# EAGLE library part ATMEGA2560 (library Atmel)
Atmel ATmega2560, Also ATmega1280 and ATmega640
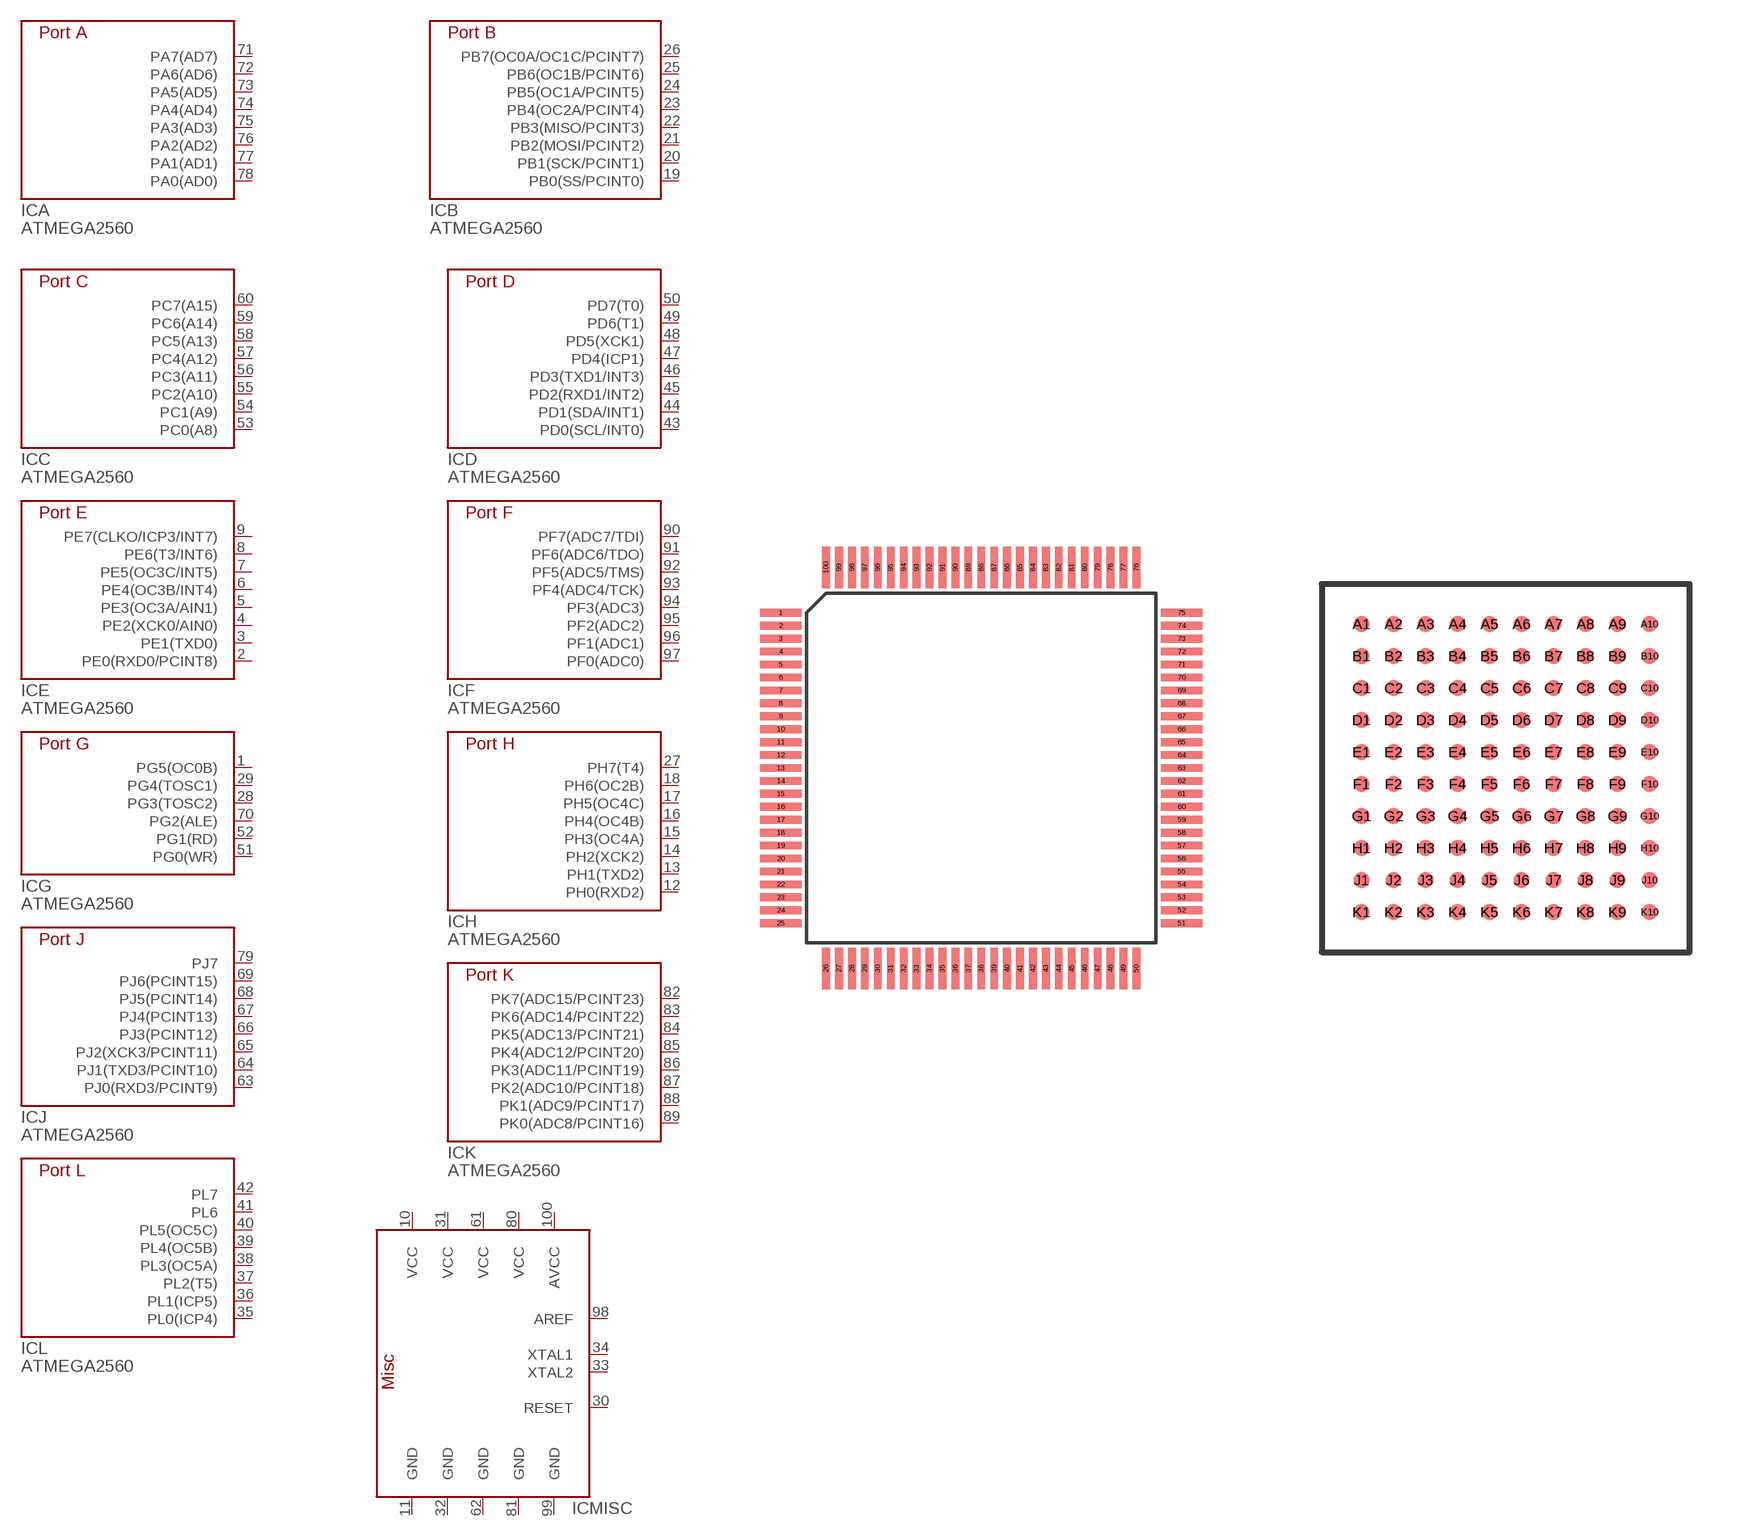
[diagram p5: symbol with the pads of TQFP100-100A; footprints TQFP100-100A, CBGA100-100C1]

Designator prefix IC; gates A=ATMEGA2560-A B=ATMEGA2560-B C=ATMEGA2560-C D=ATMEGA2560-D E=ATMEGA2560-E F=ATMEGA2560-F G=ATMEGA2560-G H=ATMEGA2560-H J=ATMEGA2560-J K=ATMEGA2560-K L=ATMEGA2560-L MISC=ATMEGA2560-MISC

## ATMEGA2560-16AU  [TQFP100-100A]
1  G:PG5(OC0B)
2  E:PE0(RXD0/PCINT8)
3  E:PE1(TXD0)
4  E:PE2(XCK0/AIN0)
5  E:PE3(OC3A/AIN1)
6  E:PE4(OC3B/INT4)
7  E:PE5(OC3C/INT5)
8  E:PE6(T3/INT6)
9  E:PE7(CLKO/ICP3/INT7)
10  MISC:VCC
11  MISC:GND
12  H:PH0(RXD2)
13  H:PH1(TXD2)
14  H:PH2(XCK2)
15  H:PH3(OC4A)
16  H:PH4(OC4B)
17  H:PH5(OC4C)
18  H:PH6(OC2B)
19  B:PB0(SS/PCINT0)
20  B:PB1(SCK/PCINT1)
21  B:PB2(MOSI/PCINT2)
22  B:PB3(MISO/PCINT3)
23  B:PB4(OC2A/PCINT4)
24  B:PB5(OC1A/PCINT5)
25  B:PB6(OC1B/PCINT6)
26  B:PB7(OC0A/OC1C/PCINT7)
27  H:PH7(T4)
28  G:PG3(TOSC2)
29  G:PG4(TOSC1)
30  MISC:RESET
31  MISC:VCC
32  MISC:GND
33  MISC:XTAL2
34  MISC:XTAL1
35  L:PL0(ICP4)
36  L:PL1(ICP5)
37  L:PL2(T5)
38  L:PL3(OC5A)
39  L:PL4(OC5B)
40  L:PL5(OC5C)
41  L:PL6
42  L:PL7
43  D:PD0(SCL/INT0)
44  D:PD1(SDA/INT1)
45  D:PD2(RXD1/INT2)
46  D:PD3(TXD1/INT3)
47  D:PD4(ICP1)
48  D:PD5(XCK1)
49  D:PD6(T1)
50  D:PD7(T0)
51  G:PG0(WR)
52  G:PG1(RD)
53  C:PC0(A8)
54  C:PC1(A9)
55  C:PC2(A10)
56  C:PC3(A11)
57  C:PC4(A12)
58  C:PC5(A13)
59  C:PC6(A14)
60  C:PC7(A15)
61  MISC:VCC
62  MISC:GND
63  J:PJ0(RXD3/PCINT9)
64  J:PJ1(TXD3/PCINT10)
65  J:PJ2(XCK3/PCINT11)
66  J:PJ3(PCINT12)
67  J:PJ4(PCINT13)
68  J:PJ5(PCINT14)
69  J:PJ6(PCINT15)
70  G:PG2(ALE)
71  A:PA7(AD7)
72  A:PA6(AD6)
73  A:PA5(AD5)
74  A:PA4(AD4)
75  A:PA3(AD3)
76  A:PA2(AD2)
77  A:PA1(AD1)
78  A:PA0(AD0)
79  J:PJ7
80  MISC:VCC
81  MISC:GND
82  K:PK7(ADC15/PCINT23)
83  K:PK6(ADC14/PCINT22)
84  K:PK5(ADC13/PCINT21)
85  K:PK4(ADC12/PCINT20)
86  K:PK3(ADC11/PCINT19)
87  K:PK2(ADC10/PCINT18)
88  K:PK1(ADC9/PCINT17)
89  K:PK0(ADC8/PCINT16)
90  F:PF7(ADC7/TDI)
91  F:PF6(ADC6/TDO)
92  F:PF5(ADC5/TMS)
93  F:PF4(ADC4/TCK)
94  F:PF3(ADC3)
95  F:PF2(ADC2)
96  F:PF1(ADC1)
97  F:PF0(ADC0)
98  MISC:AREF
99  MISC:GND
100  MISC:AVCC

## ATMEGA2560-16CU  [CBGA100-100C1]
A1  MISC:GND
A2  MISC:AREF
A3  F:PF0(ADC0)
A4  F:PF2(ADC2)
A5  F:PF5(ADC5/TMS)
A6  K:PK0(ADC8/PCINT16)
A7  K:PK3(ADC11/PCINT19)
A8  K:PK6(ADC14/PCINT22)
A9  MISC:GND
A10  MISC:VCC
B1  MISC:AVCC
B2  G:PG5(OC0B)
B3  F:PF1(ADC1)
B4  F:PF3(ADC3)
B5  F:PF6(ADC6/TDO)
B6  K:PK1(ADC9/PCINT17)
B7  K:PK4(ADC12/PCINT20)
B8  K:PK7(ADC15/PCINT23)
B9  A:PA0(AD0)
B10  A:PA2(AD2)
C1  E:PE2(XCK0/AIN0)
C2  E:PE0(RXD0/PCINT8)
C3  E:PE1(TXD0)
C4  F:PF4(ADC4/TCK)
C5  F:PF7(ADC7/TDI)
C6  K:PK2(ADC10/PCINT18)
C7  K:PK5(ADC13/PCINT21)
C8  J:PJ7
C9  A:PA1(AD1)
C10  A:PA3(AD3)
D1  E:PE3(OC3A/AIN1)
D2  E:PE4(OC3B/INT4)
D3  E:PE5(OC3C/INT5)
D4  E:PE6(T3/INT6)
D5  H:PH2(XCK2)
D6  A:PA4(AD4)
D7  A:PA5(AD5)
D8  A:PA6(AD6)
D9  A:PA7(AD7)
D10  G:PG2(ALE)
E1  E:PE7(CLKO/ICP3/INT7)
E2  H:PH0(RXD2)
E3  H:PH1(TXD2)
E4  H:PH3(OC4A)
E5  H:PH5(OC4C)
E6  J:PJ6(PCINT15)
E7  J:PJ5(PCINT14)
E8  J:PJ4(PCINT13)
E9  J:PJ3(PCINT12)
E10  J:PJ2(XCK3/PCINT11)
F1  MISC:VCC
F2  H:PH4(OC4B)
F3  H:PH6(OC2B)
F4  B:PB0(SS/PCINT0)
F5  L:PL4(OC5B)
F6  D:PD1(SDA/INT1)
F7  J:PJ1(TXD3/PCINT10)
F8  J:PJ0(RXD3/PCINT9)
F9  C:PC7(A15)
F10  MISC:GND
G1  MISC:GND
G2  B:PB1(SCK/PCINT1)
G3  B:PB2(MOSI/PCINT2)
G4  B:PB5(OC1A/PCINT5)
G5  L:PL2(T5)
G6  D:PD0(SCL/INT0)
G7  D:PD5(XCK1)
G8  C:PC5(A13)
G9  C:PC6(A14)
G10  MISC:VCC
H1  B:PB3(MISO/PCINT3)
H2  B:PB4(OC2A/PCINT4)
H3  MISC:RESET
H4  L:PL1(ICP5)
H5  L:PL3(OC5A)
H6  L:PL7
H7  D:PD4(ICP1)
H8  C:PC4(A12)
H9  C:PC3(A11)
H10  C:PC2(A10)
J1  H:PH7(T4)
J2  G:PG3(TOSC2)
J3  B:PB6(OC1B/PCINT6)
J4  L:PL0(ICP4)
J5  MISC:XTAL2
J6  L:PL6
J7  D:PD3(TXD1/INT3)
J8  C:PC1(A9)
J9  C:PC0(A8)
J10  G:PG1(RD)
K1  B:PB7(OC0A/OC1C/PCINT7)
K2  G:PG4(TOSC1)
K3  MISC:VCC
K4  MISC:GND
K5  MISC:XTAL1
K6  L:PL5(OC5C)
K7  D:PD2(RXD1/INT2)
K8  D:PD6(T1)
K9  D:PD7(T0)
K10  G:PG0(WR)

## Footprint TQFP100-100A (pad centres in mm)
100-Lead, 14x14mm Body Size, 1.0mm Body Thickness, 0.5mm lead pitch, Thin Quad Flat Pack (TQFP)
smd 1.6 x 0.3: 1 -7.75,6; 2 -7.75,5.5; 3 -7.75,5; 4 -7.75,4.5; 5 -7.75,4; 6 -7.75,3.5; 7 -7.75,3; 8 -7.75,2.5; 9 -7.75,2; 10 -7.75,1.5; 11 -7.75,1; 12 -7.75,0.5; 13 -7.75,0; 14 -7.75,-0.5; 15 -7.75,-1; 16 -7.75,-1.5; 17 -7.75,-2; 18 -7.75,-2.5; 19 -7.75,-3; 20 -7.75,-3.5; 21 -7.75,-4; 22 -7.75,-4.5; 23 -7.75,-5; 24 -7.75,-5.5; 25 -7.75,-6; 51 7.75,-6; 52 7.75,-5.5; 53 7.75,-5; 54 7.75,-4.5; 55 7.75,-4; 56 7.75,-3.5; 57 7.75,-3; 58 7.75,-2.5; 59 7.75,-2; 60 7.75,-1.5; 61 7.75,-1; 62 7.75,-0.5; 63 7.75,0; 64 7.75,0.5; 65 7.75,1; 66 7.75,1.5; 67 7.75,2; 68 7.75,2.5; 69 7.75,3; 70 7.75,3.5; 71 7.75,4; 72 7.75,4.5; 73 7.75,5; 74 7.75,5.5; 75 7.75,6
smd 0.3 x 1.6: 26 -6,-7.75; 27 -5.5,-7.75; 28 -5,-7.75; 29 -4.5,-7.75; 30 -4,-7.75; 31 -3.5,-7.75; 32 -3,-7.75; 33 -2.5,-7.75; 34 -2,-7.75; 35 -1.5,-7.75; 36 -1,-7.75; 37 -0.5,-7.75; 38 0,-7.75; 39 0.5,-7.75; 40 1,-7.75; 41 1.5,-7.75; 42 2,-7.75; 43 2.5,-7.75; 44 3,-7.75; 45 3.5,-7.75; 46 4,-7.75; 47 4.5,-7.75; 48 5,-7.75; 49 5.5,-7.75; 50 6,-7.75; 76 6,7.75; 77 5.5,7.75; 78 5,7.75; 79 4.5,7.75; 80 4,7.75; 81 3.5,7.75; 82 3,7.75; 83 2.5,7.75; 84 2,7.75; 85 1.5,7.75; 86 1,7.75; 87 0.5,7.75; 88 0,7.75; 89 -0.5,7.75; 90 -1,7.75; 91 -1.5,7.75; 92 -2,7.75; 93 -2.5,7.75; 94 -3,7.75; 95 -3.5,7.75; 96 -4,7.75; 97 -4.5,7.75; 98 -5,7.75; 99 -5.5,7.75; 100 -6,7.75

## Footprint CBGA100-100C1 (pad centres in mm)
100C1, 100-ball, 9x9x1.2mm Body, Ball Pitch 0.80mm, BGA (CBGA)
smd 0.4 x 0.4: A1 -3.6,3.6; A2 -2.8,3.6; A3 -2,3.6; A4 -1.2,3.6; A5 -0.4,3.6; A6 0.4,3.6; A7 1.2,3.6; A8 2,3.6; A9 2.8,3.6; A10 3.6,3.6; B1 -3.6,2.8; B2 -2.8,2.8; B3 -2,2.8; B4 -1.2,2.8; B5 -0.4,2.8; B6 0.4,2.8; B7 1.2,2.8; B8 2,2.8; B9 2.8,2.8; B10 3.6,2.8; C1 -3.6,2; C2 -2.8,2; C3 -2,2; C4 -1.2,2; C5 -0.4,2; C6 0.4,2; C7 1.2,2; C8 2,2; C9 2.8,2; C10 3.6,2; D1 -3.6,1.2; D2 -2.8,1.2; D3 -2,1.2; D4 -1.2,1.2; D5 -0.4,1.2; D6 0.4,1.2; D7 1.2,1.2; D8 2,1.2; D9 2.8,1.2; D10 3.6,1.2; E1 -3.6,0.4; E2 -2.8,0.4; E3 -2,0.4; E4 -1.2,0.4; E5 -0.4,0.4; E6 0.4,0.4; E7 1.2,0.4; E8 2,0.4; E9 2.8,0.4; E10 3.6,0.4; F1 -3.6,-0.4; F2 -2.8,-0.4; F3 -2,-0.4; F4 -1.2,-0.4; F5 -0.4,-0.4; F6 0.4,-0.4; F7 1.2,-0.4; F8 2,-0.4; F9 2.8,-0.4; F10 3.6,-0.4; G1 -3.6,-1.2; G2 -2.8,-1.2; G3 -2,-1.2; G4 -1.2,-1.2; G5 -0.4,-1.2; G6 0.4,-1.2; G7 1.2,-1.2; G8 2,-1.2; G9 2.8,-1.2; G10 3.6,-1.2; H1 -3.6,-2; H2 -2.8,-2; H3 -2,-2; H4 -1.2,-2; H5 -0.4,-2; H6 0.4,-2; H7 1.2,-2; H8 2,-2; H9 2.8,-2; H10 3.6,-2; J1 -3.6,-2.8; J2 -2.8,-2.8; J3 -2,-2.8; J4 -1.2,-2.8; J5 -0.4,-2.8; J6 0.4,-2.8; J7 1.2,-2.8; J8 2,-2.8; J9 2.8,-2.8; J10 3.6,-2.8; K1 -3.6,-3.6; K2 -2.8,-3.6; K3 -2,-3.6; K4 -1.2,-3.6; K5 -0.4,-3.6; K6 0.4,-3.6; K7 1.2,-3.6; K8 2,-3.6; K9 2.8,-3.6; K10 3.6,-3.6